# EAGLE library part 24LC128T-I/MNY (library Microchip-24LCxxx)
IC, EEPROM, 128KBIT, I2C, TDFN-8
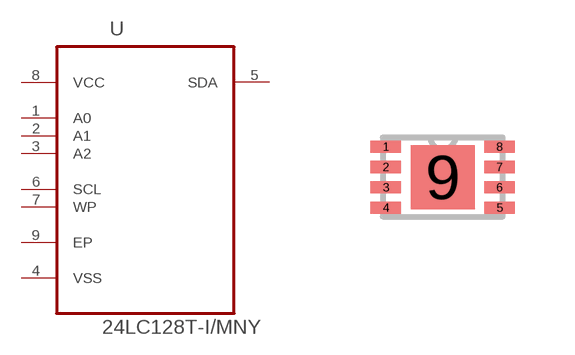
[diagram p6: symbol with the pads of TDFN50P300X200X80-9N; footprint TDFN50P300X200X80-9N]

Designator prefix -

## 24LC128T-I/MNY (MPN: 24LC128T-I/MNY; OC_FARNELL: 2318771; OC_NEWARK: 86W6595; PACKAGE: TDFN-8; SUPPLIER: Microchip)  [TDFN50P300X200X80-9N]
1  A0  in
2  A1  in
3  A2  in
4  VSS  pas
5  SDA
6  SCL  in
7  WP  in
8  VCC  pwr
9  EP  pas

## Footprint TDFN50P300X200X80-9N (pad centres in mm)
smd 0.762 x 0.305: 1 -1.422,0.762; 2 -1.422,0.254; 3 -1.422,-0.254; 4 -1.422,-0.762; 5 1.422,-0.762; 6 1.422,-0.254; 7 1.422,0.254; 8 1.422,0.762
smd 1.6 x 1.6: 9 0,0